# Altium schematic symbol library TPS54331 MOUDLE.SCHLIB: 20 symbols
Pins are listed as number, name and electrical type; pins without a type are passive.

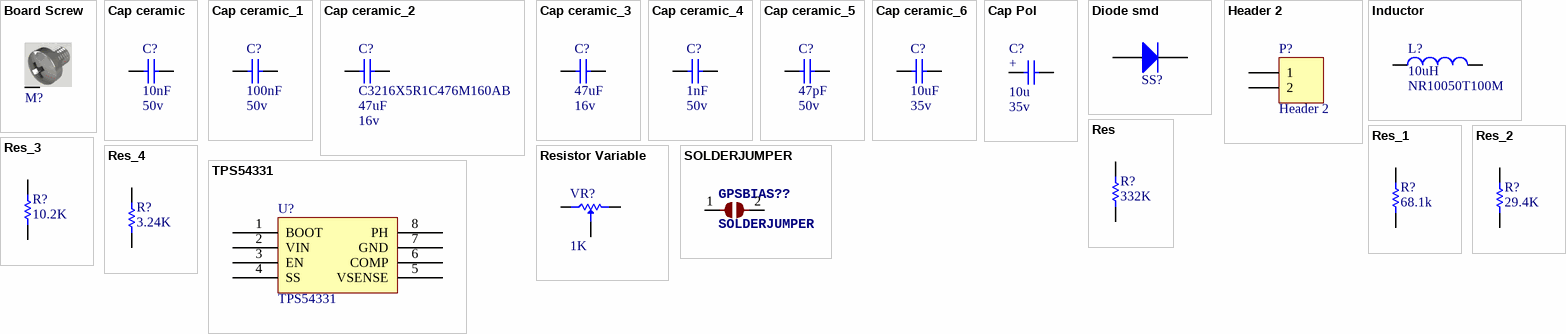
[diagram p0: symbols Board Screw to TPS54331]

## Board Screw
designator M?, comment Screw  (value not drawn)
Board Screw With Spacer
footprint Board Screw
footprint Board Screw_No Silk
pins: S

## Cap ceramic
designator C?, comment Volte: 50v  (hidden comment: 10nF)
None polar capacitor; Value: 10nF
footprint My_cap100n
footprint MY_1206
footprint MY_0805
footprint MY_1210
footprint MY_1310
footprint MY_1608
footprint MY_1812
footprint MY_1825
footprint MY_2012
footprint MY_2220
footprint MY_2225
footprint MY_3216
footprint MY_3225
footprint MY_4532
footprint MY_4564
footprint MY_0201
footprint MY_0402
footprint MY_0603
footprint MY_E5-7.5mm
footprint MY_E6-10mm
footprint MY_E8.4-15mm
footprint MY_2010
footprint MY_1218
footprint MY_E5-7.5mmB
footprint MY_E8.7-26.8mm
footprint MY_E9.3-31.6mm
footprint MY_E3.2-10.3mm
pins: 1, 2

## Cap ceramic_1
designator C?, comment Volte: 50v  (hidden comment: 100nF)
None polar capacitor; Value: 100nF
footprint My_cap100n
footprint MY_1206
footprint MY_0805
footprint MY_1210
footprint MY_1310
footprint MY_1608
footprint MY_1812
footprint MY_1825
footprint MY_2012
footprint MY_2220
footprint MY_2225
footprint MY_3216
footprint MY_3225
footprint MY_4532
footprint MY_4564
footprint MY_0201
footprint MY_0402
footprint MY_0603
footprint MY_E5-7.5mm
footprint MY_E6-10mm
footprint MY_E8.4-15mm
footprint MY_2010
footprint MY_1218
footprint MY_E5-7.5mmB
footprint MY_E8.7-26.8mm
footprint MY_E9.3-31.6mm
footprint MY_E3.2-10.3mm
pins: 1, 2

## Cap ceramic_2
designator C?, comment C3216X5R1C476M160AB  value 47uF  Volte: 16v
None polar capacitor
footprint My_cap100n
footprint MY_1206
footprint MY_0805
footprint MY_1210
footprint MY_1310
footprint MY_1608
footprint MY_1812
footprint MY_1825
footprint MY_2012
footprint MY_2220
footprint MY_2225
footprint MY_3216
footprint MY_3225
footprint MY_4532
footprint MY_4564
footprint MY_0201
footprint MY_0402
footprint MY_0603
footprint MY_E5-7.5mm
footprint MY_E6-10mm
footprint MY_E8.4-15mm
footprint MY_2010
footprint MY_1218
footprint MY_E5-7.5mmB
footprint MY_E8.7-26.8mm
footprint MY_E9.3-31.6mm
footprint MY_E3.2-10.3mm
pins: 1, 2

## Cap ceramic_3
designator C?, comment Volte: 16v  (hidden comment: 47uF)
None polar capacitor; Value: 47uF
footprint My_cap100n
footprint MY_1206
footprint MY_0805
footprint MY_1210
footprint MY_1310
footprint MY_1608
footprint MY_1812
footprint MY_1825
footprint MY_2012
footprint MY_2220
footprint MY_2225
footprint MY_3216
footprint MY_3225
footprint MY_4532
footprint MY_4564
footprint MY_0201
footprint MY_0402
footprint MY_0603
footprint MY_E5-7.5mm
footprint MY_E6-10mm
footprint MY_E8.4-15mm
footprint MY_2010
footprint MY_1218
footprint MY_E5-7.5mmB
footprint MY_E8.7-26.8mm
footprint MY_E9.3-31.6mm
footprint MY_E3.2-10.3mm
pins: 1, 2

## Cap ceramic_4
designator C?, comment Volte: 50v  (hidden comment: 1nF)
None polar capacitor; Value: 1nF
footprint My_cap100n
footprint MY_1206
footprint MY_0805
footprint MY_1210
footprint MY_1310
footprint MY_1608
footprint MY_1812
footprint MY_1825
footprint MY_2012
footprint MY_2220
footprint MY_2225
footprint MY_3216
footprint MY_3225
footprint MY_4532
footprint MY_4564
footprint MY_0201
footprint MY_0402
footprint MY_0603
footprint MY_E5-7.5mm
footprint MY_E6-10mm
footprint MY_E8.4-15mm
footprint MY_2010
footprint MY_1218
footprint MY_E5-7.5mmB
footprint MY_E8.7-26.8mm
footprint MY_E9.3-31.6mm
footprint MY_E3.2-10.3mm
pins: 1, 2

## Cap ceramic_5
designator C?, comment Volte: 50v  (hidden comment: 47pF)
None polar capacitor; Value: 47pF
footprint My_cap100n
footprint MY_1206
footprint MY_0805
footprint MY_1210
footprint MY_1310
footprint MY_1608
footprint MY_1812
footprint MY_1825
footprint MY_2012
footprint MY_2220
footprint MY_2225
footprint MY_3216
footprint MY_3225
footprint MY_4532
footprint MY_4564
footprint MY_0201
footprint MY_0402
footprint MY_0603
footprint MY_E5-7.5mm
footprint MY_E6-10mm
footprint MY_E8.4-15mm
footprint MY_2010
footprint MY_1218
footprint MY_E5-7.5mmB
footprint MY_E8.7-26.8mm
footprint MY_E9.3-31.6mm
footprint MY_E3.2-10.3mm
pins: 1, 2

## Cap ceramic_6
designator C?, comment Volte: 35v  (hidden comment: 10uF)
None polar capacitor; Value: 10uF
footprint My_cap100n
footprint MY_1206
footprint MY_0805
footprint MY_1210
footprint MY_1310
footprint MY_1608
footprint MY_1812
footprint MY_1825
footprint MY_2012
footprint MY_2220
footprint MY_2225
footprint MY_3216
footprint MY_3225
footprint MY_4532
footprint MY_4564
footprint MY_0201
footprint MY_0402
footprint MY_0603
footprint MY_E5-7.5mm
footprint MY_E6-10mm
footprint MY_E8.4-15mm
footprint MY_2010
footprint MY_1218
footprint MY_E5-7.5mmB
footprint MY_E8.7-26.8mm
footprint MY_E9.3-31.6mm
footprint MY_E3.2-10.3mm
pins: 1, 2

## Cap Pol
designator C?, comment Volte: 35v  (hidden comment: 10u)
Polar capacitor; ASiD Part Number: C-AS; Value: 10u
footprint MY_E2.5-5mm
footprint MY_E2.5-6mm
footprint MY_E2.5-7mm
footprint MY_E3.5-8mm
footprint MY_E3.5-10mm
footprint MY_E5-13mm
footprint MY_E7.5-16mm
footprint MY_E7.5-18mm
footprint MY_E10-35mm
footprint MY_CLV_1012
footprint MY_CLV_0405
footprint MY_CLV_0605
footprint MY_CLV_0810
footprint MY_E5-10.5mm
footprint MY_CLV_0505
footprint MY_SMC_A
footprint MY_SMC_B
footprint MY_SMC_C
footprint MY_SMC_D
footprint MY_SMC_E
pins: +, -

## Diode smd
designator SS?, comment shot key  (value not drawn)
footprint Diode smd
footprint Diode smd
pins: 0 A, 1 K

## Header 2
designator P?
Header, 2-Pin; LatestRevisionDate: 17-Jul-2002; LatestRevisionNote: Re-released for DXP Platform.; Publisher: Altium Limited
footprint HDR1X2 (Connector; Header; 2 Position)
signal-integrity model Connector
pins: 1, 2

## Inductor
designator L?, comment NR10050T100M  value 10uH
Inductor; Current: 4.7A
footprint MY_Coil
footprint MY_0805
footprint MY_1206
footprint MY_1210
footprint MY_1310
footprint MY_1608
footprint MY_1812
footprint MY_1825
footprint MY_2012
footprint MY_2220
footprint MY_2225
footprint MY_3216
footprint MY_3225
footprint MY_4532
footprint MY_4564
footprint MY_DR73
footprint MY_DR125
footprint MY_ED16
footprint MY_ED22
footprint MY_ED26
footprint MY_ED38
footprint MY_ED43
footprint MY_SFT830D
footprint MY_SFT830S
footprint MY_SFT1030
footprint MY_SFT840D
footprint MY_SFT1040
footprint MY_SFT1240
footprint MY_0201
footprint MY_0402
footprint MY_0603
footprint MY_10mm_Self
footprint MY_2010
footprint MY_1218
footprint MY_SLF6028
footprint MY_DR1030
pins: 1, 2

## Res
designator R?, comment 332K
Standard resistor; Value: 332K
footprint MY_1206
footprint MY_0805
footprint MY_1210
footprint MY_1310
footprint MY_1608
footprint MY_1812
footprint MY_1825
footprint MY_2012
footprint MY_2220
footprint MY_2225
footprint MY_3216
footprint MY_3225
footprint MY_4532
footprint MY_4564
footprint MY_0201
footprint MY_0402
footprint MY_0603
footprint MY_(0.25w)_0207V
footprint MY_(0.25w)_0207_10
footprint MY_0309V
footprint MY_0309_12
footprint MY_0414V
footprint MY_0414_15
footprint MY_(0.5w)_0411V
footprint MY_(0.5w)_0411_15
footprint MY_(1w)_0613V
footprint MY_(1w)_0613_15
footprint MY_(2w)_0617V
footprint MY_(2w)_0617_22
footprint MY_(3w)_0817V
footprint MY_(3w)_0817_22
footprint MY_(5w)_0922V
footprint MY_(5w)_0922_22
footprint MY_2010
footprint MY_1218
pins: 1, 2

## Res_1
designator R?, comment 68.1k
Standard resistor; Value: 68.1k
footprint MY_1206
footprint MY_0805
footprint MY_1210
footprint MY_1310
footprint MY_1608
footprint MY_1812
footprint MY_1825
footprint MY_2012
footprint MY_2220
footprint MY_2225
footprint MY_3216
footprint MY_3225
footprint MY_4532
footprint MY_4564
footprint MY_0201
footprint MY_0402
footprint MY_0603
footprint MY_(0.25w)_0207V
footprint MY_(0.25w)_0207_10
footprint MY_0309V
footprint MY_0309_12
footprint MY_0414V
footprint MY_0414_15
footprint MY_(0.5w)_0411V
footprint MY_(0.5w)_0411_15
footprint MY_(1w)_0613V
footprint MY_(1w)_0613_15
footprint MY_(2w)_0617V
footprint MY_(2w)_0617_22
footprint MY_(3w)_0817V
footprint MY_(3w)_0817_22
footprint MY_(5w)_0922V
footprint MY_(5w)_0922_22
footprint MY_2010
footprint MY_1218
pins: 1, 2

## Res_2
designator R?, comment 29.4K
Standard resistor; Value: 29.4K
footprint MY_1206
footprint MY_0805
footprint MY_1210
footprint MY_1310
footprint MY_1608
footprint MY_1812
footprint MY_1825
footprint MY_2012
footprint MY_2220
footprint MY_2225
footprint MY_3216
footprint MY_3225
footprint MY_4532
footprint MY_4564
footprint MY_0201
footprint MY_0402
footprint MY_0603
footprint MY_(0.25w)_0207V
footprint MY_(0.25w)_0207_10
footprint MY_0309V
footprint MY_0309_12
footprint MY_0414V
footprint MY_0414_15
footprint MY_(0.5w)_0411V
footprint MY_(0.5w)_0411_15
footprint MY_(1w)_0613V
footprint MY_(1w)_0613_15
footprint MY_(2w)_0617V
footprint MY_(2w)_0617_22
footprint MY_(3w)_0817V
footprint MY_(3w)_0817_22
footprint MY_(5w)_0922V
footprint MY_(5w)_0922_22
footprint MY_2010
footprint MY_1218
pins: 1, 2

## Res_3
designator R?, comment 10.2K
Standard resistor; Value: 10.2K
footprint MY_1206
footprint MY_0805
footprint MY_1210
footprint MY_1310
footprint MY_1608
footprint MY_1812
footprint MY_1825
footprint MY_2012
footprint MY_2220
footprint MY_2225
footprint MY_3216
footprint MY_3225
footprint MY_4532
footprint MY_4564
footprint MY_0201
footprint MY_0402
footprint MY_0603
footprint MY_(0.25w)_0207V
footprint MY_(0.25w)_0207_10
footprint MY_0309V
footprint MY_0309_12
footprint MY_0414V
footprint MY_0414_15
footprint MY_(0.5w)_0411V
footprint MY_(0.5w)_0411_15
footprint MY_(1w)_0613V
footprint MY_(1w)_0613_15
footprint MY_(2w)_0617V
footprint MY_(2w)_0617_22
footprint MY_(3w)_0817V
footprint MY_(3w)_0817_22
footprint MY_(5w)_0922V
footprint MY_(5w)_0922_22
footprint MY_2010
footprint MY_1218
pins: 1, 2

## Res_4
designator R?, comment 3.24K
Standard resistor; Value: 3.24K
footprint MY_1206
footprint MY_0805
footprint MY_1210
footprint MY_1310
footprint MY_1608
footprint MY_1812
footprint MY_1825
footprint MY_2012
footprint MY_2220
footprint MY_2225
footprint MY_3216
footprint MY_3225
footprint MY_4532
footprint MY_4564
footprint MY_0201
footprint MY_0402
footprint MY_0603
footprint MY_(0.25w)_0207V
footprint MY_(0.25w)_0207_10
footprint MY_0309V
footprint MY_0309_12
footprint MY_0414V
footprint MY_0414_15
footprint MY_(0.5w)_0411V
footprint MY_(0.5w)_0411_15
footprint MY_(1w)_0613V
footprint MY_(1w)_0613_15
footprint MY_(2w)_0617V
footprint MY_(2w)_0617_22
footprint MY_(3w)_0817V
footprint MY_(3w)_0817_22
footprint MY_(5w)_0922V
footprint MY_(5w)_0922_22
footprint MY_2010
footprint MY_1218
pins: 1, 2

## Resistor Variable
designator VR?, comment 1K
Variable Resistor; Designer: Saeid Jorablo; Company: ControTec; Adding Date: 137/12/22; Value: 1K
footprint Pot 00
footprint Multi Turn 02
pins: 1 CCW, 2 CW, 3 Setpoint

## SOLDERJUMPER
designator GPSBIAS??
SMD Solder JUMPER   Solder the two pads together to create a connection, or remove the solder to break it.REFLOW - Use this footprint for solder paste and reflow ovens. WAVE - Use this footprint for hand-soldering (larger pads).    CLOSED - Has a trace between the two pads to ensure it is closed by default.  The trace needs to be cut to disable the jumper, and can be closed again by creating a solder bridge between the two pads.; BOM: EXCLUDE; COMPANY: ADAFRUIT INDUSTRIES; DRAWN: KTOWN; REV: A
footprint SOLDERJUMPER_ARROW_NOPASTE
pins: 1, 2

## TPS54331
designator U?
3A, 28V INPUT, STEP DOWN SWIFT™ DC/DC CONVERTER WITH ECO-MODE
footprint My_SOIC_P8
footprint SOIC8_M (SOIC, 8-Leads, Body 4.9x3.9mm, Pitch 1.27mm, IPC Low Density)
pins: 1 BOOT, 2 VIN, 3 EN, 4 SS, 5 VSENSE, 6 COMP, 7 GND (power), 8 PH